# Altium footprint library WL-SFCW.PcbLib: 5 footprints
Each footprint in its own frame and in the unit in brackets; x right, y up, seen from the top. Pads: shape width x height; smd on the part's side, far side on the other; paste and mask are expansions set on the pad; w line width, h text height; cw(c..) or ccw(c..) is an arc to the next point about the centre after c.
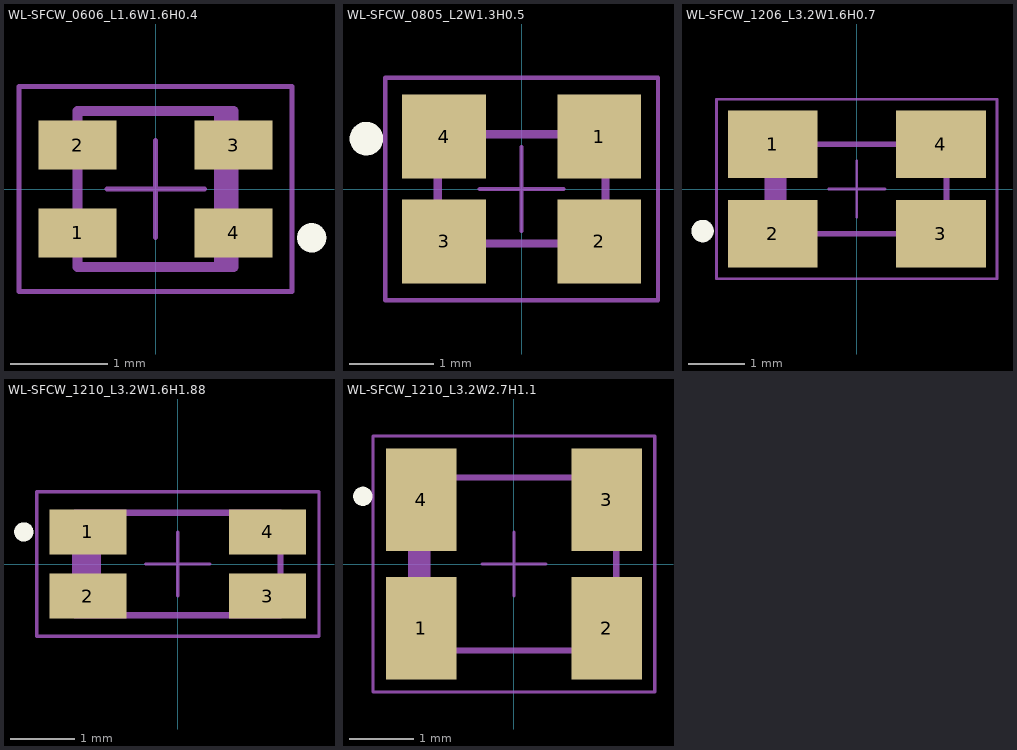
[diagram p0: the footprints below, top view; thin cyan lines are the x and y axes]

## WL-SFCW_0606_L1.6W1.6H0.4 [mm] "SMD Full-color Chip LED Waterclear, body 1.60 x 1.60mm"
height 0.4
pads (4):
  rect 0.8x0.5 smd: 1(-0.8,-0.45) 2(-0.8,0.45) 3(0.8,0.45) 4(0.8,-0.45)
Top Overlay:
  circle w0.15: c1.6,-0.5 r0.075
Top Designator:
  text ".Designator" at -2.499,-0.167 h0.5
Top Component Outline:
  rectangle: 0.6,-0.8 0.8,0.8
  lines w0.1: -0.8,-0.8 -0.8,0.8 0.8,0.8 0.8,-0.8 -0.8,-0.8
Top Courtyard:
  lines w0.05: -1.4,-1.05 1.4,-1.05 1.4,1.05 -1.4,1.05 -1.4,-1.05
Top Component Center:
  lines w0.05: -0.5,0 0.5,0 ; 0,-0.5 0,0.5
3D body "150066M173000.stp": height 0.4, standoff 0, extent -0.8,-0.8 0.8,0.8

## WL-SFCW_0805_L2W1.3H0.5 [mm] "SMD Full-color Chip LED Waterclear, body 2.00 x 1.30mm"
height 0.5
pads (4):
  rect 1x1 smd: 1(0.925,0.625) 2(0.925,-0.625) 3(-0.925,-0.625) 4(-0.925,0.625)
Top Overlay:
  circle w0.2: c-1.85,0.6 r0.1
Top Designator:
  text ".Designator" at -2.499,-0.167 h0.5
Top Component Outline:
  lines w0.1: -1,-0.65 -1,0.65 1,0.65 1,-0.65 -1,-0.65
Top Courtyard:
  lines w0.05: -1.625,-1.325 1.625,-1.325 1.625,1.325 -1.625,1.325 -1.625,-1.325
Top Component Center:
  lines w0.05: -0.5,0 0.5,0 ; 0,-0.5 0,0.5
3D body "150080M173000.stp": height 0.5, standoff 0, extent -1,-0.65 1,0.65

## WL-SFCW_1206_L3.2W1.6H0.7 [mm] "SMT Full-color Chip LED Waterclear, body 3.20 x 1.60mm"
height 0.7
pads (4):
  rect 1.6x1.2 smd: 1(-1.5,0.8) 2(-1.5,-0.8) 3(1.5,-0.8) 4(1.5,0.8)
Top Overlay:
  circle w0.2: c-2.75,-0.75 r0.1
Top Designator:
  text ".Designator" at -3.499,-0.233 h0.7
Top Component Outline:
  rectangle: -1.6,-0.8 -1.25,0.8
  lines w0.1: -1.6,-0.8 1.6,-0.8 1.6,0.8 -1.6,0.8 -1.6,-0.8
Top Courtyard:
  lines w0.05: -2.5,-1.6 2.5,-1.6 2.5,1.6 -2.5,1.6 -2.5,-1.6
Top Component Center:
  lines w0.05: -0.5,0 0.5,0 ; 0,-0.5 0,0.5
3D body "150120M173000.stp": height 0.7, standoff 0, extent -1.6,-0.8 1.6,0.8

## WL-SFCW_1210_L3.2W1.6H1.88 [mm] "SMD Full-color Chip LED Waterclear, body 3.20 x 1.60mm"
height 1.88
pads (4):
  rect 1.2x0.7 smd: 1(-1.4,0.5) 2(-1.4,-0.5) 3(1.4,-0.5) 4(1.4,0.5)
Top Overlay:
  circle w0.15: c-2.4,0.5 r0.075
Top Designator:
  text ".Designator" at -3.499,-0.233 h0.7
Top Component Outline:
  rectangle: -1.6,-0.8 -1.2,0.8
  lines w0.1: -1.6,-0.8 -1.6,0.8 1.6,0.8 1.6,-0.8 -1.6,-0.8
Top Courtyard:
  lines w0.05: -2.2,-1.125 2.2,-1.125 2.2,1.125 -2.2,1.125 -2.2,-1.125
Top Component Center:
  lines w0.05: -0.5,0 0.5,0 ; 0,-0.5 0,0.5
3D body "Downloads_STP_150120M183000 (rev1).stp": height 1.88, standoff 0, extent -1.6,-0.8 1.6,0.8

## WL-SFCW_1210_L3.2W2.7H1.1 [mm] "SMD Full-color Chip LED Waterclear, body 3.20 x 2.7mm"
height 1.1
pads (4):
  rect 1.1x1.6 smd: 1(-1.45,-1) 2(1.45,-1) 3(1.45,1) 4(-1.45,1)
Top Overlay:
  circle w0.15: c-2.359,1.056 r0.075
Top Designator:
  text ".Designator" at -3.499,-0.233 h0.7
Top Component Outline:
  rectangle: -1.6,-1.35 -1.3,1.35
  lines w0.1: -1.6,-1.35 -1.6,1.35 1.6,1.35 1.6,-1.35 -1.6,-1.35
Top Courtyard:
  lines w0.05: -2.2,-2 2.2,-2 2.2,2 -2.2,2 -2.2,-2
Top Component Center:
  lines w0.05: -0.5,0 0.5,0 ; 0,-0.5 0,0.5
3D body "150121M173000.stp": height 1.08, standoff -0.02, extent -1.6,-1.35 1.6,1.35